# Altium integrated library TI Power Management Power Modules.IntLib: 831 symbols (part 16 of 44)
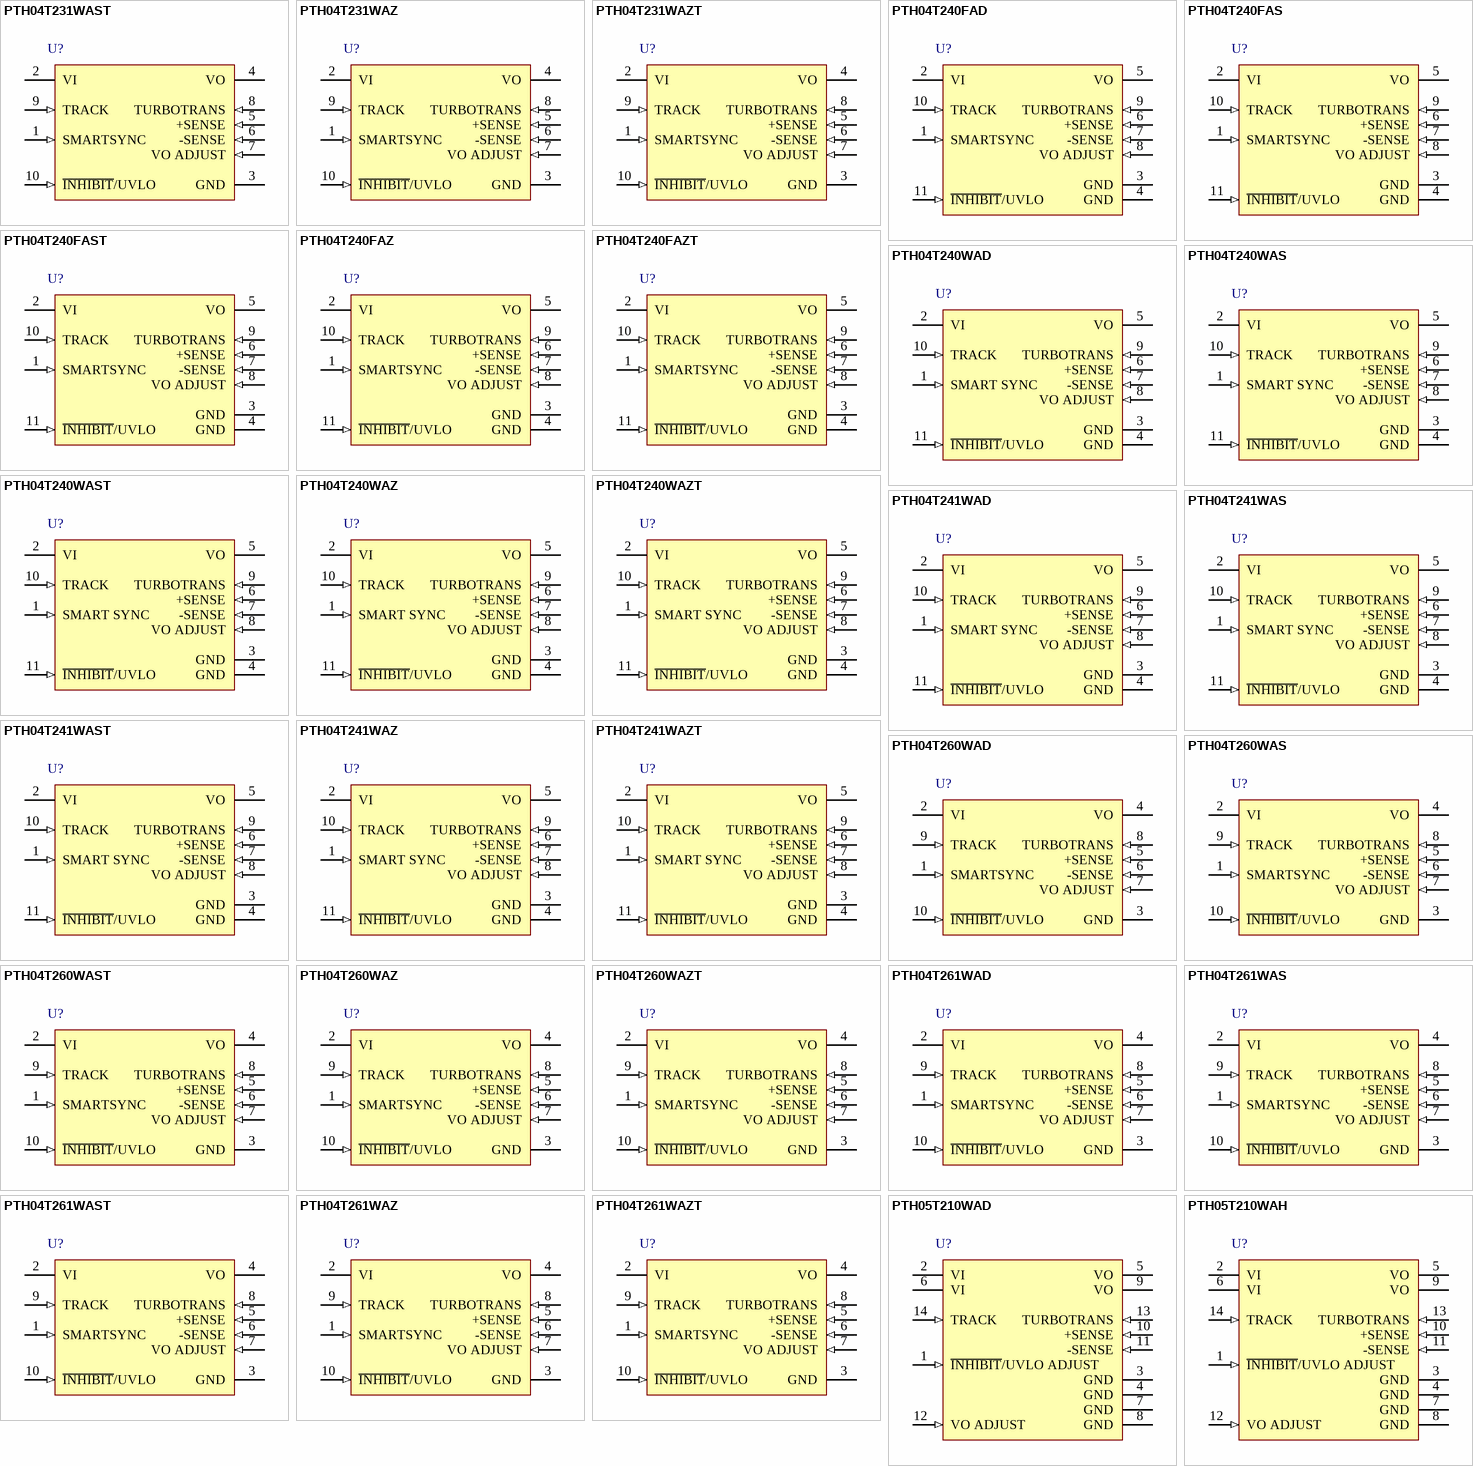
[diagram p38: symbols PTH04T231WAST to PTH05T210WAH]

## PTH05T210WAD
designator U?
30 A, 4.5 to 5.5 V Input, Non-Isolated, Wide Output Adjustable Power Module with TurboTrans, -40 to 85 degC, 14-pin Module (ECP14), Pb-Free (RoHS); Manufacturer: Texas Instruments; PartNumber: PTH05T210WAD; Iout(Max)(A): 30; Regulated Outputs(#): 1; SubFamily: Non-Isolated POL; Vin(Max)(V): 5.5; Vin(Min)(V): 4.5; VO Adjustable: TRUE; Vout(Max)(V): 3.6; Vout(Min)(V): 0.7; DatasheetVersion: SLTS263I; PackageVersion: 4207617/F; PackageReference: ECP14; PackageDescription: 14-Pin Plastic Special Shape, Body 15.75 x 34.8 mm; Supplier 1: Digi-Key; Supplier Part Number 1: 296-20425-ND; Supplier 2: Newark; Supplier Part Number 2: 71K9392; Supplier 3: Mouser; Supplier Part Number 3: 595-PTH05T210WAD; Eco-Plan: Pb-Free (RoHS); Mounting Technology: Surface Mount; ComponentLink1Description: Manufacturer URL; ComponentLink1URL: http://www.ti.com/; ComponentLink2Description: Datasheet; ComponentLink2URL: http://www.ti.com/general/docs/lit/getliterature.tsp?genericPartNumber=PTH05T210W&fileType=pdf; ComponentLink3Description: Package Specification; ComponentLink3URL: http://www.ti.com/litv/pdf/mpds245e; ComponentLink4Description: URL Link1; ComponentLink4URL: Samples URL:http://www.ti.com/product/pth05t210w#samples
footprint TI-ECP14_V (14-Leads Double Sided Module, Body 34.8x15.75mm)
pins: 1 ~{INHIBIT}/UVLO ADJUST (in) "The Inhibit pin is an open-collector/drain, negative logic input that is referenced to GND. Applying a low level ground signal to this input disables the module’s output and turns off the output voltage. When the Inhibit (See Datasheet)", 2 VI (power) "The positive input voltage power node to the module, which is referenced to common GND.", 3 GND (power) "This is the common ground connection for the VI and VO power connections. It is also the 0 Vdc reference for the control inputs.", 4 GND (power) "This is the common ground connection for the VI and VO power connections. It is also the 0 Vdc reference for the control inputs.", 5 VO (power) "The regulated positive power output with respect to the GND.", 6 VI (power) "The positive input voltage power node to the module, which is referenced to common GND.", 7 GND (power) "This is the common ground connection for the VI and VO power connections. It is also the 0 Vdc reference for the control inputs.", 8 GND (power) "This is the common ground connection for the VI and VO power connections. It is also the 0 Vdc reference for the control inputs.", 9 VO (power) "The regulated positive power output with respect to the GND.", 10 +SENSE (in) "The sense input allows the regulation circuit to compensate for voltage drop between the module and the load. For optimal voltage accuracy, +Sense must be connected to VO , very close to the load.", 11 -SENSE (in) "The sense input allows the regulation circuit to compensate for voltage drop between the module and the load. For optimal voltage accuracy, -Sense must be connected to GND (pin 8), very close to the load.", 12 VO ADJUST (in) "A 0.1 W 1% resistor must be directly connected between this pin and pin 8 (GND) to set the output voltage to a value higher than 0.7 V. The temperature stability of the resistor should be 100 ppm/degreesC (or better). The (See Datasheet)", 13 TURBOTRANS (in) "This input pin adjusts the transient response of the regulator. To activate the TurboTrans feature, a 1%, 50 mW resistor must be connected between this pin and pin 10 (+Sense) very close to the module. For a given value of (See Datasheet)", 14 TRACK (in) "This is an analog control input that enables the output voltage to follow an external voltage. This pin becomes active typically 20 ms after the input voltage has been applied, and allows direct control of the output voltage (See Datasheet)"

## PTH05T210WAH
designator U?
30 A, 4.5 to 5.5 V Input, Non-Isolated, Wide Output Adjustable Power Module with TurboTrans, -40 to 85 degC, 14-pin Module (ECP14), Pb-Free (RoHS); Manufacturer: Texas Instruments; PartNumber: PTH05T210WAH; Iout(Max)(A): 30; Regulated Outputs(#): 1; SubFamily: Non-Isolated POL; Vin(Max)(V): 5.5; Vin(Min)(V): 4.5; VO Adjustable: TRUE; Vout(Max)(V): 3.6; Vout(Min)(V): 0.7; DatasheetVersion: SLTS263I; PackageVersion: 4207617/F; PackageReference: ECP14; PackageDescription: 14-Pin Plastic Special Shape, Body 15.75 x 34.8 mm; Supplier 1: Digi-Key; Supplier Part Number 1: 296-20426-ND; Supplier 2: Newark; Supplier Part Number 2: 71K9393; Supplier 3: Mouser; Supplier Part Number 3: 595-PTH05T210WAH; Eco-Plan: Pb-Free (RoHS); Mounting Technology: Surface Mount; ComponentLink1Description: Manufacturer URL; ComponentLink1URL: http://www.ti.com/; ComponentLink2Description: Datasheet; ComponentLink2URL: http://www.ti.com/general/docs/lit/getliterature.tsp?genericPartNumber=PTH05T210W&fileType=pdf; ComponentLink3Description: Package Specification; ComponentLink3URL: http://www.ti.com/litv/pdf/mpds245e; ComponentLink4Description: URL Link1; ComponentLink4URL: Samples URL:http://www.ti.com/product/pth05t210w#samples
footprint TI-ECP14_V (14-Leads Double Sided Module, Body 34.8x15.75mm)
pins: 1 ~{INHIBIT}/UVLO ADJUST (in) "The Inhibit pin is an open-collector/drain, negative logic input that is referenced to GND. Applying a low level ground signal to this input disables the module’s output and turns off the output voltage. When the Inhibit (See Datasheet)", 2 VI (power) "The positive input voltage power node to the module, which is referenced to common GND.", 3 GND (power) "This is the common ground connection for the VI and VO power connections. It is also the 0 Vdc reference for the control inputs.", 4 GND (power) "This is the common ground connection for the VI and VO power connections. It is also the 0 Vdc reference for the control inputs.", 5 VO (power) "The regulated positive power output with respect to the GND.", 6 VI (power) "The positive input voltage power node to the module, which is referenced to common GND.", 7 GND (power) "This is the common ground connection for the VI and VO power connections. It is also the 0 Vdc reference for the control inputs.", 8 GND (power) "This is the common ground connection for the VI and VO power connections. It is also the 0 Vdc reference for the control inputs.", 9 VO (power) "The regulated positive power output with respect to the GND.", 10 +SENSE (in) "The sense input allows the regulation circuit to compensate for voltage drop between the module and the load. For optimal voltage accuracy, +Sense must be connected to VO , very close to the load.", 11 -SENSE (in) "The sense input allows the regulation circuit to compensate for voltage drop between the module and the load. For optimal voltage accuracy, -Sense must be connected to GND (pin 8), very close to the load.", 12 VO ADJUST (in) "A 0.1 W 1% resistor must be directly connected between this pin and pin 8 (GND) to set the output voltage to a value higher than 0.7 V. The temperature stability of the resistor should be 100 ppm/degreesC (or better). The (See Datasheet)", 13 TURBOTRANS (in) "This input pin adjusts the transient response of the regulator. To activate the TurboTrans feature, a 1%, 50 mW resistor must be connected between this pin and pin 10 (+Sense) very close to the module. For a given value of (See Datasheet)", 14 TRACK (in) "This is an analog control input that enables the output voltage to follow an external voltage. This pin becomes active typically 20 ms after the input voltage has been applied, and allows direct control of the output voltage (See Datasheet)"

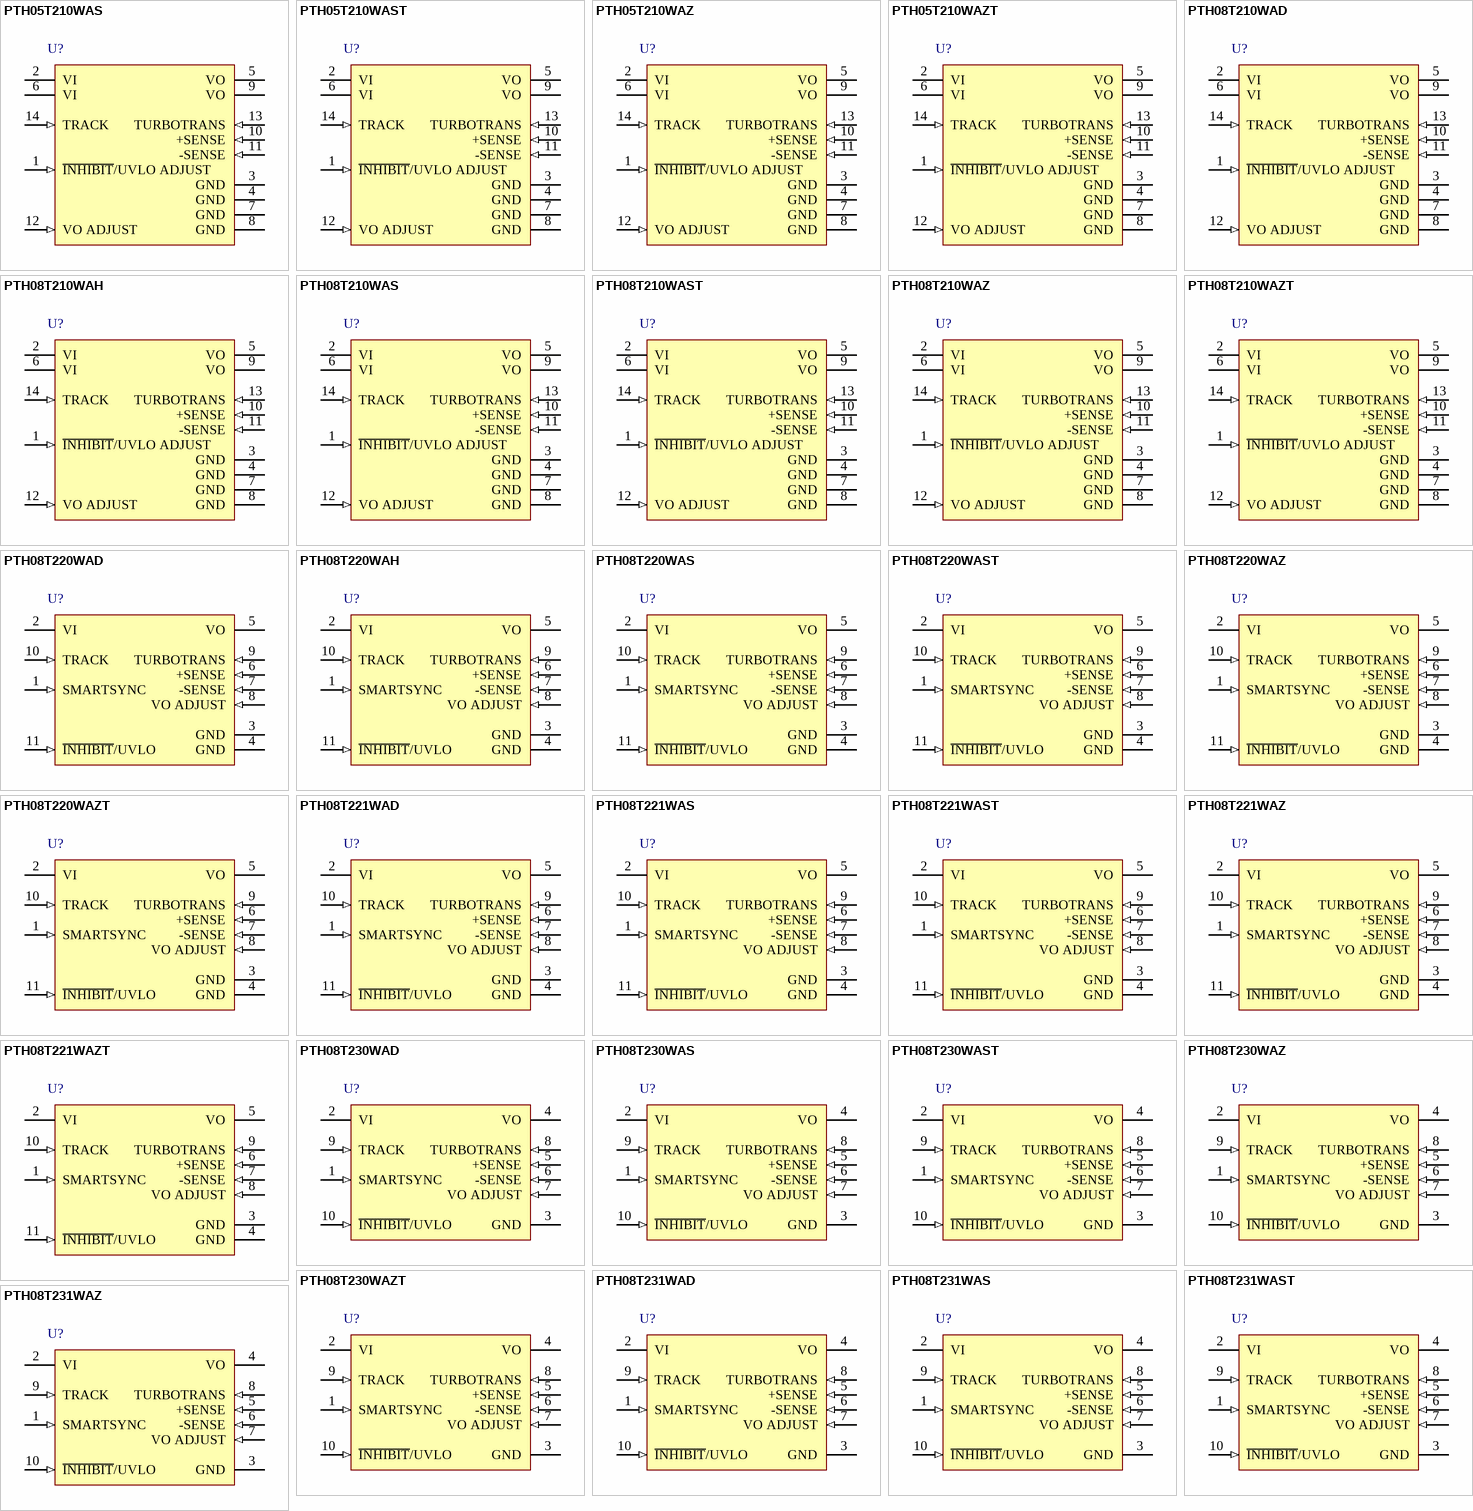
[diagram p10: symbols PTH05T210WAS to PTH08T231WAZ]

## PTH05T210WAS
designator U?
30 A, 4.5 to 5.5 V Input, Non-Isolated, Wide Output Adjustable Power Module with TurboTrans, -40 to 85 degC, 14-pin Module (ECQ14); Manufacturer: Texas Instruments; PartNumber: PTH05T210WAS; Eco-Plan: TBD; Iout(Max)(A): 30; Regulated Outputs(#): 1; SubFamily: Non-Isolated POL; Vin(Max)(V): 5.5; Vin(Min)(V): 4.5; VO Adjustable: TRUE; Vout(Max)(V): 3.6; Vout(Min)(V): 0.7; DatasheetVersion: SLTS263I; PackageVersion: 4207618/G; PackageReference: ECQ14; PackageDescription: 14-Pin Plastic Special Shape, Body 15.75 x 34.8 mm; Supplier 1: Digi-Key; Supplier Part Number 1: 296-20427-ND; Supplier 2: Newark; Supplier Part Number 2: 71K9394; Supplier 3: Mouser; Supplier Part Number 3: 595-PTH05T210WAS; Mounting Technology: Surface Mount; ComponentLink1Description: Manufacturer URL; ComponentLink1URL: http://www.ti.com/; ComponentLink2Description: Datasheet; ComponentLink2URL: http://www.ti.com/general/docs/lit/getliterature.tsp?genericPartNumber=PTH05T210W&fileType=pdf; ComponentLink3Description: Package Specification; ComponentLink3URL: http://www.ti.com/lit/ml/mpds246f/mpds246f.pdf; ComponentLink4Description: URL Link1; ComponentLink4URL: Samples URL:http://www.ti.com/product/pth05t210w#samples
footprint TI-ECQ14_V (Moudle, 14-Leads, Body 34.8x15.75mm)
pins: 1 ~{INHIBIT}/UVLO ADJUST (in) "The Inhibit pin is an open-collector/drain, negative logic input that is referenced to GND. Applying a low level ground signal to this input disables the module’s output and turns off the output voltage. When the Inhibit (See Datasheet)", 2 VI (power) "The positive input voltage power node to the module, which is referenced to common GND.", 3 GND (power) "This is the common ground connection for the VI and VO power connections. It is also the 0 Vdc reference for the control inputs.", 4 GND (power) "This is the common ground connection for the VI and VO power connections. It is also the 0 Vdc reference for the control inputs.", 5 VO (power) "The regulated positive power output with respect to the GND.", 6 VI (power) "The positive input voltage power node to the module, which is referenced to common GND.", 7 GND (power) "This is the common ground connection for the VI and VO power connections. It is also the 0 Vdc reference for the control inputs.", 8 GND (power) "This is the common ground connection for the VI and VO power connections. It is also the 0 Vdc reference for the control inputs.", 9 VO (power) "The regulated positive power output with respect to the GND.", 10 +SENSE (in) "The sense input allows the regulation circuit to compensate for voltage drop between the module and the load. For optimal voltage accuracy, +Sense must be connected to VO , very close to the load.", 11 -SENSE (in) "The sense input allows the regulation circuit to compensate for voltage drop between the module and the load. For optimal voltage accuracy, -Sense must be connected to GND (pin 8), very close to the load.", 12 VO ADJUST (in) "A 0.1 W 1% resistor must be directly connected between this pin and pin 8 (GND) to set the output voltage to a value higher than 0.7 V. The temperature stability of the resistor should be 100 ppm/degreesC (or better). The (See Datasheet)", 13 TURBOTRANS (in) "This input pin adjusts the transient response of the regulator. To activate the TurboTrans feature, a 1%, 50 mW resistor must be connected between this pin and pin 10 (+Sense) very close to the module. For a given value of (See Datasheet)", 14 TRACK (in) "This is an analog control input that enables the output voltage to follow an external voltage. This pin becomes active typically 20 ms after the input voltage has been applied, and allows direct control of the output voltage (See Datasheet)"

## PTH05T210WAST
designator U?
30 A, 4.5 to 5.5 V Input, Non-Isolated, Wide Output Adjustable Power Module with TurboTrans, -40 to 85 degC, 14-pin Module (ECQ14); Manufacturer: Texas Instruments; PartNumber: PTH05T210WAST; Eco-Plan: TBD; Iout(Max)(A): 30; Regulated Outputs(#): 1; SubFamily: Non-Isolated POL; Vin(Max)(V): 5.5; Vin(Min)(V): 4.5; VO Adjustable: TRUE; Vout(Max)(V): 3.6; Vout(Min)(V): 0.7; DatasheetVersion: SLTS263I; PackageVersion: 4207618/G; PackageReference: ECQ14; PackageDescription: 14-Pin Plastic Special Shape, Body 15.75 x 34.8 mm; Supplier 1: Digi-Key; Supplier Part Number 1: PTH05T210WAST-ND; Supplier 2: Newark; Supplier Part Number 2: 71K9395; Supplier 3: Mouser; Supplier Part Number 3: 595-PTH05T210WAST; Mounting Technology: Surface Mount; ComponentLink1Description: Manufacturer URL; ComponentLink1URL: http://www.ti.com/; ComponentLink2Description: Datasheet; ComponentLink2URL: http://www.ti.com/general/docs/lit/getliterature.tsp?genericPartNumber=PTH05T210W&fileType=pdf; ComponentLink3Description: Package Specification; ComponentLink3URL: http://www.ti.com/lit/ml/mpds246f/mpds246f.pdf; ComponentLink4Description: URL Link1; ComponentLink4URL: Samples URL:http://www.ti.com/product/pth05t210w#samples
footprint TI-ECQ14_V (Moudle, 14-Leads, Body 34.8x15.75mm)
pins: 1 ~{INHIBIT}/UVLO ADJUST (in) "The Inhibit pin is an open-collector/drain, negative logic input that is referenced to GND. Applying a low level ground signal to this input disables the module’s output and turns off the output voltage. When the Inhibit (See Datasheet)", 2 VI (power) "The positive input voltage power node to the module, which is referenced to common GND.", 3 GND (power) "This is the common ground connection for the VI and VO power connections. It is also the 0 Vdc reference for the control inputs.", 4 GND (power) "This is the common ground connection for the VI and VO power connections. It is also the 0 Vdc reference for the control inputs.", 5 VO (power) "The regulated positive power output with respect to the GND.", 6 VI (power) "The positive input voltage power node to the module, which is referenced to common GND.", 7 GND (power) "This is the common ground connection for the VI and VO power connections. It is also the 0 Vdc reference for the control inputs.", 8 GND (power) "This is the common ground connection for the VI and VO power connections. It is also the 0 Vdc reference for the control inputs.", 9 VO (power) "The regulated positive power output with respect to the GND.", 10 +SENSE (in) "The sense input allows the regulation circuit to compensate for voltage drop between the module and the load. For optimal voltage accuracy, +Sense must be connected to VO , very close to the load.", 11 -SENSE (in) "The sense input allows the regulation circuit to compensate for voltage drop between the module and the load. For optimal voltage accuracy, -Sense must be connected to GND (pin 8), very close to the load.", 12 VO ADJUST (in) "A 0.1 W 1% resistor must be directly connected between this pin and pin 8 (GND) to set the output voltage to a value higher than 0.7 V. The temperature stability of the resistor should be 100 ppm/degreesC (or better). The (See Datasheet)", 13 TURBOTRANS (in) "This input pin adjusts the transient response of the regulator. To activate the TurboTrans feature, a 1%, 50 mW resistor must be connected between this pin and pin 10 (+Sense) very close to the module. For a given value of (See Datasheet)", 14 TRACK (in) "This is an analog control input that enables the output voltage to follow an external voltage. This pin becomes active typically 20 ms after the input voltage has been applied, and allows direct control of the output voltage (See Datasheet)"

## PTH05T210WAZ
designator U?
30 A, 4.5 to 5.5 V Input, Non-Isolated, Wide Output Adjustable Power Module with TurboTrans, -40 to 85 degC, 14-pin Module (ECQ14), Pb-Free (RoHS); Manufacturer: Texas Instruments; PartNumber: PTH05T210WAZ; Iout(Max)(A): 30; Regulated Outputs(#): 1; SubFamily: Non-Isolated POL; Vin(Max)(V): 5.5; Vin(Min)(V): 4.5; VO Adjustable: TRUE; Vout(Max)(V): 3.6; Vout(Min)(V): 0.7; DatasheetVersion: SLTS263I; PackageVersion: 4207618/G; PackageReference: ECQ14; PackageDescription: 14-Pin Plastic Special Shape, Body 15.75 x 34.8 mm; Supplier 1: Digi-Key; Supplier Part Number 1: 296-20428-ND; Supplier 2: Newark; Supplier Part Number 2: 71K9396; Supplier 3: Mouser; Supplier Part Number 3: 595-PTH05T210WAZ; Eco-Plan: Pb-Free (RoHS); Mounting Technology: Surface Mount; ComponentLink1Description: Manufacturer URL; ComponentLink1URL: http://www.ti.com/; ComponentLink2Description: Datasheet; ComponentLink2URL: http://www.ti.com/general/docs/lit/getliterature.tsp?genericPartNumber=PTH05T210W&fileType=pdf; ComponentLink3Description: Package Specification; ComponentLink3URL: http://www.ti.com/lit/ml/mpds246f/mpds246f.pdf; ComponentLink4Description: URL Link1; ComponentLink4URL: Samples URL:http://www.ti.com/product/pth05t210w#samples
footprint TI-ECQ14_V (Moudle, 14-Leads, Body 34.8x15.75mm)
pins: 1 ~{INHIBIT}/UVLO ADJUST (in) "The Inhibit pin is an open-collector/drain, negative logic input that is referenced to GND. Applying a low level ground signal to this input disables the module’s output and turns off the output voltage. When the Inhibit (See Datasheet)", 2 VI (power) "The positive input voltage power node to the module, which is referenced to common GND.", 3 GND (power) "This is the common ground connection for the VI and VO power connections. It is also the 0 Vdc reference for the control inputs.", 4 GND (power) "This is the common ground connection for the VI and VO power connections. It is also the 0 Vdc reference for the control inputs.", 5 VO (power) "The regulated positive power output with respect to the GND.", 6 VI (power) "The positive input voltage power node to the module, which is referenced to common GND.", 7 GND (power) "This is the common ground connection for the VI and VO power connections. It is also the 0 Vdc reference for the control inputs.", 8 GND (power) "This is the common ground connection for the VI and VO power connections. It is also the 0 Vdc reference for the control inputs.", 9 VO (power) "The regulated positive power output with respect to the GND.", 10 +SENSE (in) "The sense input allows the regulation circuit to compensate for voltage drop between the module and the load. For optimal voltage accuracy, +Sense must be connected to VO , very close to the load.", 11 -SENSE (in) "The sense input allows the regulation circuit to compensate for voltage drop between the module and the load. For optimal voltage accuracy, -Sense must be connected to GND (pin 8), very close to the load.", 12 VO ADJUST (in) "A 0.1 W 1% resistor must be directly connected between this pin and pin 8 (GND) to set the output voltage to a value higher than 0.7 V. The temperature stability of the resistor should be 100 ppm/degreesC (or better). The (See Datasheet)", 13 TURBOTRANS (in) "This input pin adjusts the transient response of the regulator. To activate the TurboTrans feature, a 1%, 50 mW resistor must be connected between this pin and pin 10 (+Sense) very close to the module. For a given value of (See Datasheet)", 14 TRACK (in) "This is an analog control input that enables the output voltage to follow an external voltage. This pin becomes active typically 20 ms after the input voltage has been applied, and allows direct control of the output voltage (See Datasheet)"

## PTH05T210WAZT
designator U?
30 A, 4.5 to 5.5 V Input, Non-Isolated, Wide Output Adjustable Power Module with TurboTrans, -40 to 85 degC, 14-pin Module (ECQ14), Pb-Free (RoHS); Manufacturer: Texas Instruments; PartNumber: PTH05T210WAZT; Iout(Max)(A): 30; Regulated Outputs(#): 1; SubFamily: Non-Isolated POL; Vin(Max)(V): 5.5; Vin(Min)(V): 4.5; VO Adjustable: TRUE; Vout(Max)(V): 3.6; Vout(Min)(V): 0.7; DatasheetVersion: SLTS263I; PackageVersion: 4207618/G; PackageReference: ECQ14; PackageDescription: 14-Pin Plastic Special Shape, Body 15.75 x 34.8 mm; Supplier 1: Digi-Key; Supplier Part Number 1: PTH05T210WAZT-ND; Supplier 2: Newark; Supplier Part Number 2: 71K9397; Supplier 3: Mouser; Supplier Part Number 3: 595-PTH05T210WAZT; Eco-Plan: Pb-Free (RoHS); Mounting Technology: Surface Mount; ComponentLink1Description: Manufacturer URL; ComponentLink1URL: http://www.ti.com/; ComponentLink2Description: Datasheet; ComponentLink2URL: http://www.ti.com/general/docs/lit/getliterature.tsp?genericPartNumber=PTH05T210W&fileType=pdf; ComponentLink3Description: Package Specification; ComponentLink3URL: http://www.ti.com/lit/ml/mpds246f/mpds246f.pdf; ComponentLink4Description: URL Link1; ComponentLink4URL: Samples URL:http://www.ti.com/product/pth05t210w
footprint TI-ECQ14_V (Moudle, 14-Leads, Body 34.8x15.75mm)
pins: 1 ~{INHIBIT}/UVLO ADJUST (in) "The Inhibit pin is an open-collector/drain, negative logic input that is referenced to GND. Applying a low level ground signal to this input disables the module’s output and turns off the output voltage. When the Inhibit (See Datasheet)", 2 VI (power) "The positive input voltage power node to the module, which is referenced to common GND.", 3 GND (power) "This is the common ground connection for the VI and VO power connections. It is also the 0 Vdc reference for the control inputs.", 4 GND (power) "This is the common ground connection for the VI and VO power connections. It is also the 0 Vdc reference for the control inputs.", 5 VO (power) "The regulated positive power output with respect to the GND.", 6 VI (power) "The positive input voltage power node to the module, which is referenced to common GND.", 7 GND (power) "This is the common ground connection for the VI and VO power connections. It is also the 0 Vdc reference for the control inputs.", 8 GND (power) "This is the common ground connection for the VI and VO power connections. It is also the 0 Vdc reference for the control inputs.", 9 VO (power) "The regulated positive power output with respect to the GND.", 10 +SENSE (in) "The sense input allows the regulation circuit to compensate for voltage drop between the module and the load. For optimal voltage accuracy, +Sense must be connected to VO , very close to the load.", 11 -SENSE (in) "The sense input allows the regulation circuit to compensate for voltage drop between the module and the load. For optimal voltage accuracy, -Sense must be connected to GND (pin 8), very close to the load.", 12 VO ADJUST (in) "A 0.1 W 1% resistor must be directly connected between this pin and pin 8 (GND) to set the output voltage to a value higher than 0.7 V. The temperature stability of the resistor should be 100 ppm/degreesC (or better). The (See Datasheet)", 13 TURBOTRANS (in) "This input pin adjusts the transient response of the regulator. To activate the TurboTrans feature, a 1%, 50 mW resistor must be connected between this pin and pin 10 (+Sense) very close to the module. For a given value of (See Datasheet)", 14 TRACK (in) "This is an analog control input that enables the output voltage to follow an external voltage. This pin becomes active typically 20 ms after the input voltage has been applied, and allows direct control of the output voltage (See Datasheet)"

## PTH08T210WAD
designator U?
30 A, 5.5 to 14 V Input, Non-Isolated, Wide Output Adjust, Power Module with TurboTrans, -40 to 85 degC, 14-pin Module (ECP14), Pb-Free (RoHS); Manufacturer: Texas Instruments; PartNumber: PTH08T210WAD; Iout(Max)(A): 30; Regulated Outputs(#): 1; SubFamily: Non-Isolated POL; Vin(Max)(V): 14; Vin(Min)(V): 5.5; VO Adjustable: TRUE; Vout(Max)(V): 3.6; Vout(Min)(V): 0.7; DatasheetVersion: SLTS262I; PackageVersion: 4207617/F; PackageReference: ECP14; PackageDescription: 14-Pin Plastic Special Shape, Body 15.75 x 34.8 mm; Supplier 1: Digi-Key; Supplier Part Number 1: 296-20434-ND; Supplier 2: Newark; Supplier Part Number 2: 26M8295; Supplier 3: Mouser; Supplier Part Number 3: 595-PTH08T210WAD; Eco-Plan: Pb-Free (RoHS); Mounting Technology: Surface Mount; ComponentLink1Description: Manufacturer URL; ComponentLink1URL: http://www.ti.com/; ComponentLink2Description: Datasheet; ComponentLink2URL: http://www.ti.com/general/docs/lit/getliterature.tsp?genericPartNumber=PTH08T210W&fileType=pdf; ComponentLink3Description: Package Specification; ComponentLink3URL: http://www.ti.com/litv/pdf/mpds245e; ComponentLink4Description: URL Link1; ComponentLink4URL: Samples URL:http://www.ti.com/product/pth08t210w#samples
footprint TI-ECP14_V (14-Leads Double Sided Module, Body 34.8x15.75mm)
pins: 1 ~{INHIBIT}/UVLO ADJUST (in) "The Inhibit pin is an open-collector/drain, negative logic input that is referenced to GND. Applying a low level ground signal to this input disables the module’s output and turns off the output voltage. When the Inhibit (See Datasheet)", 2 VI (power) "The positive input voltage power node to the module, which is referenced to common GND.", 3 GND (power) "This is the common ground connection for the VI and VO power connections. It is also the 0 Vdc reference for the control inputs.", 4 GND (power) "This is the common ground connection for the VI and VO power connections. It is also the 0 Vdc reference for the control inputs.", 5 VO (power) "The regulated positive power output with respect to the GND.", 6 VI (power) "The positive input voltage power node to the module, which is referenced to common GND.", 7 GND (power) "This is the common ground connection for the VI and VO power connections. It is also the 0 Vdc reference for the control inputs.", 8 GND (power) "This is the common ground connection for the VI and VO power connections. It is also the 0 Vdc reference for the control inputs.", 9 VO (power) "The regulated positive power output with respect to the GND.", 10 +SENSE (in) "The sense input allows the regulation circuit to compensate for voltage drop between the module and the load. For optimal voltage accuracy, +Sense must be connected to VO , very close to the load.", 11 -SENSE (in) "The sense input allows the regulation circuit to compensate for voltage drop between the module and the load. For optimal voltage accuracy, -Sense must be connected to GND (pin 8), very close to the load.", 12 VO ADJUST (in) "A 0.1 W 1% resistor must be directly connected between this pin and pin 8 (GND) to set the output voltage to a value higher than 0.7 V. The temperature stability of the resistor should be 100 ppm/degreesC (or better). The (See Datasheet)", 13 TURBOTRANS (in) "This input pin adjusts the transient response of the regulator. To activate the TurboTrans feature, a 1%, 50 mW resistor must be connected between this pin and pin 10 (+Sense) very close to the module. For a given value of (See Datasheet)", 14 TRACK (in) "This is an analog control input that enables the output voltage to follow an external voltage. This pin becomes active typically 20 ms after the input voltage has been applied, and allows direct control of the output voltage (See Datasheet)"

## PTH08T210WAH
designator U?
30 A, 5.5 to 14 V Input, Non-Isolated, Wide Output Adjust, Power Module with TurboTrans, -40 to 85 degC, 14-pin Module (ECP14), Pb-Free (RoHS); Manufacturer: Texas Instruments; PartNumber: PTH08T210WAH; Iout(Max)(A): 30; Regulated Outputs(#): 1; SubFamily: Non-Isolated POL; Vin(Max)(V): 14; Vin(Min)(V): 5.5; VO Adjustable: TRUE; Vout(Max)(V): 3.6; Vout(Min)(V): 0.7; DatasheetVersion: SLTS262I; PackageVersion: 4207617/F; PackageReference: ECP14; PackageDescription: 14-Pin Plastic Special Shape, Body 15.75 x 34.8 mm; Supplier 1: Digi-Key; Supplier Part Number 1: 296-20435-ND; Supplier 2: Newark; Supplier Part Number 2: 78M1805; Supplier 3: Mouser; Supplier Part Number 3: 595-PTH08T210WAH; Eco-Plan: Pb-Free (RoHS); Mounting Technology: Surface Mount; ComponentLink1Description: Manufacturer URL; ComponentLink1URL: http://www.ti.com/; ComponentLink2Description: Datasheet; ComponentLink2URL: http://www.ti.com/general/docs/lit/getliterature.tsp?genericPartNumber=PTH08T210W&fileType=pdf; ComponentLink3Description: Package Specification; ComponentLink3URL: http://www.ti.com/litv/pdf/mpds245e; ComponentLink4Description: URL Link1; ComponentLink4URL: Samples URL:http://www.ti.com/product/pth08t210w#samples
footprint TI-ECP14_V (14-Leads Double Sided Module, Body 34.8x15.75mm)
pins: 1 ~{INHIBIT}/UVLO ADJUST (in) "The Inhibit pin is an open-collector/drain, negative logic input that is referenced to GND. Applying a low level ground signal to this input disables the module’s output and turns off the output voltage. When the Inhibit (See Datasheet)", 2 VI (power) "The positive input voltage power node to the module, which is referenced to common GND.", 3 GND (power) "This is the common ground connection for the VI and VO power connections. It is also the 0 Vdc reference for the control inputs.", 4 GND (power) "This is the common ground connection for the VI and VO power connections. It is also the 0 Vdc reference for the control inputs.", 5 VO (power) "The regulated positive power output with respect to the GND.", 6 VI (power) "The positive input voltage power node to the module, which is referenced to common GND.", 7 GND (power) "This is the common ground connection for the VI and VO power connections. It is also the 0 Vdc reference for the control inputs.", 8 GND (power) "This is the common ground connection for the VI and VO power connections. It is also the 0 Vdc reference for the control inputs.", 9 VO (power) "The regulated positive power output with respect to the GND.", 10 +SENSE (in) "The sense input allows the regulation circuit to compensate for voltage drop between the module and the load. For optimal voltage accuracy, +Sense must be connected to VO , very close to the load.", 11 -SENSE (in) "The sense input allows the regulation circuit to compensate for voltage drop between the module and the load. For optimal voltage accuracy, -Sense must be connected to GND (pin 8), very close to the load.", 12 VO ADJUST (in) "A 0.1 W 1% resistor must be directly connected between this pin and pin 8 (GND) to set the output voltage to a value higher than 0.7 V. The temperature stability of the resistor should be 100 ppm/degreesC (or better). The (See Datasheet)", 13 TURBOTRANS (in) "This input pin adjusts the transient response of the regulator. To activate the TurboTrans feature, a 1%, 50 mW resistor must be connected between this pin and pin 10 (+Sense) very close to the module. For a given value of (See Datasheet)", 14 TRACK (in) "This is an analog control input that enables the output voltage to follow an external voltage. This pin becomes active typically 20 ms after the input voltage has been applied, and allows direct control of the output voltage (See Datasheet)"

## PTH08T210WAS
designator U?
30 A, 5.5 to 14 V Input, Non-Isolated, Wide Output Adjust, Power Module with TurboTrans, -40 to 85 degC, 14-pin Module (ECQ14); Manufacturer: Texas Instruments; PartNumber: PTH08T210WAS; Eco-Plan: TBD; Iout(Max)(A): 30; Regulated Outputs(#): 1; SubFamily: Non-Isolated POL; Vin(Max)(V): 14; Vin(Min)(V): 5.5; VO Adjustable: TRUE; Vout(Max)(V): 3.6; Vout(Min)(V): 0.7; DatasheetVersion: SLTS262I; PackageVersion: 4207618/G; PackageReference: ECQ14; PackageDescription: 14-Pin Plastic Special Shape, Body 15.75 x 34.8 mm; Supplier 1: Digi-Key; Supplier Part Number 1: 296-20436-ND; Supplier 2: Newark; Supplier Part Number 2: 66K4112; Supplier 3: Mouser; Supplier Part Number 3: 595-PTH08T210WAS; Mounting Technology: Surface Mount; ComponentLink1Description: Manufacturer URL; ComponentLink1URL: http://www.ti.com/; ComponentLink2Description: Datasheet; ComponentLink2URL: http://www.ti.com/general/docs/lit/getliterature.tsp?genericPartNumber=PTH08T210W&fileType=pdf; ComponentLink3Description: Package Specification; ComponentLink3URL: http://www.ti.com/lit/ml/mpds246f/mpds246f.pdf; ComponentLink4Description: URL Link1; ComponentLink4URL: Samples URL:http://www.ti.com/product/pth08t210w#samples
footprint TI-ECQ14_V (Moudle, 14-Leads, Body 34.8x15.75mm)
pins: 1 ~{INHIBIT}/UVLO ADJUST (in) "The Inhibit pin is an open-collector/drain, negative logic input that is referenced to GND. Applying a low level ground signal to this input disables the module’s output and turns off the output voltage. When the Inhibit (See Datasheet)", 2 VI (power) "The positive input voltage power node to the module, which is referenced to common GND.", 3 GND (power) "This is the common ground connection for the VI and VO power connections. It is also the 0 Vdc reference for the control inputs.", 4 GND (power) "This is the common ground connection for the VI and VO power connections. It is also the 0 Vdc reference for the control inputs.", 5 VO (power) "The regulated positive power output with respect to the GND.", 6 VI (power) "The positive input voltage power node to the module, which is referenced to common GND.", 7 GND (power) "This is the common ground connection for the VI and VO power connections. It is also the 0 Vdc reference for the control inputs.", 8 GND (power) "This is the common ground connection for the VI and VO power connections. It is also the 0 Vdc reference for the control inputs.", 9 VO (power) "The regulated positive power output with respect to the GND.", 10 +SENSE (in) "The sense input allows the regulation circuit to compensate for voltage drop between the module and the load. For optimal voltage accuracy, +Sense must be connected to VO , very close to the load.", 11 -SENSE (in) "The sense input allows the regulation circuit to compensate for voltage drop between the module and the load. For optimal voltage accuracy, -Sense must be connected to GND (pin 8), very close to the load.", 12 VO ADJUST (in) "A 0.1 W 1% resistor must be directly connected between this pin and pin 8 (GND) to set the output voltage to a value higher than 0.7 V. The temperature stability of the resistor should be 100 ppm/degreesC (or better). The (See Datasheet)", 13 TURBOTRANS (in) "This input pin adjusts the transient response of the regulator. To activate the TurboTrans feature, a 1%, 50 mW resistor must be connected between this pin and pin 10 (+Sense) very close to the module. For a given value of (See Datasheet)", 14 TRACK (in) "This is an analog control input that enables the output voltage to follow an external voltage. This pin becomes active typically 20 ms after the input voltage has been applied, and allows direct control of the output voltage (See Datasheet)"

## PTH08T210WAST
designator U?
30 A, 5.5 to 14 V Input, Non-Isolated, Wide Output Adjust, Power Module with TurboTrans, -40 to 85 degC, 14-pin Module (ECQ14); Manufacturer: Texas Instruments; PartNumber: PTH08T210WAST; Eco-Plan: TBD; Iout(Max)(A): 30; Regulated Outputs(#): 1; SubFamily: Non-Isolated POL; Vin(Max)(V): 14; Vin(Min)(V): 5.5; VO Adjustable: TRUE; Vout(Max)(V): 3.6; Vout(Min)(V): 0.7; DatasheetVersion: SLTS262I; PackageVersion: 4207618/G; PackageReference: ECQ14; PackageDescription: 14-Pin Plastic Special Shape, Body 15.75 x 34.8 mm; Supplier 1: Digi-Key; Supplier Part Number 1: PTH08T210WAST-ND; Supplier 2: Newark; Supplier Part Number 2: 66K4113; Supplier 3: Mouser; Supplier Part Number 3: 595-PTH08T210WAST; Mounting Technology: Surface Mount; ComponentLink1Description: Manufacturer URL; ComponentLink1URL: http://www.ti.com/; ComponentLink2Description: Datasheet; ComponentLink2URL: http://www.ti.com/general/docs/lit/getliterature.tsp?genericPartNumber=PTH08T210W&fileType=pdf; ComponentLink3Description: Package Specification; ComponentLink3URL: http://www.ti.com/lit/ml/mpds246f/mpds246f.pdf; ComponentLink4Description: URL Link1; ComponentLink4URL: Samples URL:http://www.ti.com/product/pth08t210w#samples
footprint TI-ECQ14_V (Moudle, 14-Leads, Body 34.8x15.75mm)
pins: 1 ~{INHIBIT}/UVLO ADJUST (in) "The Inhibit pin is an open-collector/drain, negative logic input that is referenced to GND. Applying a low level ground signal to this input disables the module’s output and turns off the output voltage. When the Inhibit (See Datasheet)", 2 VI (power) "The positive input voltage power node to the module, which is referenced to common GND.", 3 GND (power) "This is the common ground connection for the VI and VO power connections. It is also the 0 Vdc reference for the control inputs.", 4 GND (power) "This is the common ground connection for the VI and VO power connections. It is also the 0 Vdc reference for the control inputs.", 5 VO (power) "The regulated positive power output with respect to the GND.", 6 VI (power) "The positive input voltage power node to the module, which is referenced to common GND.", 7 GND (power) "This is the common ground connection for the VI and VO power connections. It is also the 0 Vdc reference for the control inputs.", 8 GND (power) "This is the common ground connection for the VI and VO power connections. It is also the 0 Vdc reference for the control inputs.", 9 VO (power) "The regulated positive power output with respect to the GND.", 10 +SENSE (in) "The sense input allows the regulation circuit to compensate for voltage drop between the module and the load. For optimal voltage accuracy, +Sense must be connected to VO , very close to the load.", 11 -SENSE (in) "The sense input allows the regulation circuit to compensate for voltage drop between the module and the load. For optimal voltage accuracy, -Sense must be connected to GND (pin 8), very close to the load.", 12 VO ADJUST (in) "A 0.1 W 1% resistor must be directly connected between this pin and pin 8 (GND) to set the output voltage to a value higher than 0.7 V. The temperature stability of the resistor should be 100 ppm/degreesC (or better). The (See Datasheet)", 13 TURBOTRANS (in) "This input pin adjusts the transient response of the regulator. To activate the TurboTrans feature, a 1%, 50 mW resistor must be connected between this pin and pin 10 (+Sense) very close to the module. For a given value of (See Datasheet)", 14 TRACK (in) "This is an analog control input that enables the output voltage to follow an external voltage. This pin becomes active typically 20 ms after the input voltage has been applied, and allows direct control of the output voltage (See Datasheet)"

## PTH08T210WAZ
designator U?
30 A, 5.5 to 14 V Input, Non-Isolated, Wide Output Adjust, Power Module with TurboTrans, -40 to 85 degC, 14-pin Module (ECQ14), Pb-Free (RoHS); Manufacturer: Texas Instruments; PartNumber: PTH08T210WAZ; Iout(Max)(A): 30; Regulated Outputs(#): 1; SubFamily: Non-Isolated POL; Vin(Max)(V): 14; Vin(Min)(V): 5.5; VO Adjustable: TRUE; Vout(Max)(V): 3.6; Vout(Min)(V): 0.7; DatasheetVersion: SLTS262I; PackageVersion: 4207618/G; PackageReference: ECQ14; PackageDescription: 14-Pin Plastic Special Shape, Body 15.75 x 34.8 mm; Supplier 1: Digi-Key; Supplier Part Number 1: 296-20437-ND; Supplier 2: Farnell; Supplier Part Number 2: 1755097; Supplier 3: Farnell; Supplier Part Number 3: 1273071; Supplier 4: Newark; Supplier Part Number 4: 66K4114; Supplier 5: Mouser; Supplier Part Number 5: 595-PTH08T210WAZ; Eco-Plan: Pb-Free (RoHS); Mounting Technology: Surface Mount; ComponentLink1Description: Manufacturer URL; ComponentLink1URL: http://www.ti.com/; ComponentLink2Description: Datasheet; ComponentLink2URL: http://www.ti.com/general/docs/lit/getliterature.tsp?genericPartNumber=PTH08T210W&fileType=pdf; ComponentLink3Description: Package Specification; ComponentLink3URL: http://www.ti.com/lit/ml/mpds246f/mpds246f.pdf; ComponentLink4Description: URL Link1; ComponentLink4URL: Samples URL:http://www.ti.com/product/pth08t210w#samples
footprint TI-ECQ14_V (Moudle, 14-Leads, Body 34.8x15.75mm)
pins: 1 ~{INHIBIT}/UVLO ADJUST (in) "The Inhibit pin is an open-collector/drain, negative logic input that is referenced to GND. Applying a low level ground signal to this input disables the module’s output and turns off the output voltage. When the Inhibit (See Datasheet)", 2 VI (power) "The positive input voltage power node to the module, which is referenced to common GND.", 3 GND (power) "This is the common ground connection for the VI and VO power connections. It is also the 0 Vdc reference for the control inputs.", 4 GND (power) "This is the common ground connection for the VI and VO power connections. It is also the 0 Vdc reference for the control inputs.", 5 VO (power) "The regulated positive power output with respect to the GND.", 6 VI (power) "The positive input voltage power node to the module, which is referenced to common GND.", 7 GND (power) "This is the common ground connection for the VI and VO power connections. It is also the 0 Vdc reference for the control inputs.", 8 GND (power) "This is the common ground connection for the VI and VO power connections. It is also the 0 Vdc reference for the control inputs.", 9 VO (power) "The regulated positive power output with respect to the GND.", 10 +SENSE (in) "The sense input allows the regulation circuit to compensate for voltage drop between the module and the load. For optimal voltage accuracy, +Sense must be connected to VO , very close to the load.", 11 -SENSE (in) "The sense input allows the regulation circuit to compensate for voltage drop between the module and the load. For optimal voltage accuracy, -Sense must be connected to GND (pin 8), very close to the load.", 12 VO ADJUST (in) "A 0.1 W 1% resistor must be directly connected between this pin and pin 8 (GND) to set the output voltage to a value higher than 0.7 V. The temperature stability of the resistor should be 100 ppm/degreesC (or better). The (See Datasheet)", 13 TURBOTRANS (in) "This input pin adjusts the transient response of the regulator. To activate the TurboTrans feature, a 1%, 50 mW resistor must be connected between this pin and pin 10 (+Sense) very close to the module. For a given value of (See Datasheet)", 14 TRACK (in) "This is an analog control input that enables the output voltage to follow an external voltage. This pin becomes active typically 20 ms after the input voltage has been applied, and allows direct control of the output voltage (See Datasheet)"

## PTH08T210WAZT
designator U?
30 A, 5.5 to 14 V Input, Non-Isolated, Wide Output Adjust, Power Module with TurboTrans, -40 to 85 degC, 14-pin Module (ECQ14), Pb-Free (RoHS); Manufacturer: Texas Instruments; PartNumber: PTH08T210WAZT; Iout(Max)(A): 30; Regulated Outputs(#): 1; SubFamily: Non-Isolated POL; Vin(Max)(V): 14; Vin(Min)(V): 5.5; VO Adjustable: TRUE; Vout(Max)(V): 3.6; Vout(Min)(V): 0.7; DatasheetVersion: SLTS262I; PackageVersion: 4207618/G; PackageReference: ECQ14; PackageDescription: 14-Pin Plastic Special Shape, Body 15.75 x 34.8 mm; Supplier 1: Digi-Key; Supplier Part Number 1: PTH08T210WAZT-ND; Supplier 2: Newark; Supplier Part Number 2: 66K4115; Supplier 3: Mouser; Supplier Part Number 3: 595-PTH08T210WAZT; Eco-Plan: Pb-Free (RoHS); Mounting Technology: Surface Mount; ComponentLink1Description: Manufacturer URL; ComponentLink1URL: http://www.ti.com/; ComponentLink2Description: Datasheet; ComponentLink2URL: http://www.ti.com/general/docs/lit/getliterature.tsp?genericPartNumber=PTH08T210W&fileType=pdf; ComponentLink3Description: Package Specification; ComponentLink3URL: http://www.ti.com/lit/ml/mpds246f/mpds246f.pdf; ComponentLink4Description: URL Link1; ComponentLink4URL: Samples URL:http://www.ti.com/product/pth08t210w
footprint TI-ECQ14_V (Moudle, 14-Leads, Body 34.8x15.75mm)
pins: 1 ~{INHIBIT}/UVLO ADJUST (in) "The Inhibit pin is an open-collector/drain, negative logic input that is referenced to GND. Applying a low level ground signal to this input disables the module’s output and turns off the output voltage. When the Inhibit (See Datasheet)", 2 VI (power) "The positive input voltage power node to the module, which is referenced to common GND.", 3 GND (power) "This is the common ground connection for the VI and VO power connections. It is also the 0 Vdc reference for the control inputs.", 4 GND (power) "This is the common ground connection for the VI and VO power connections. It is also the 0 Vdc reference for the control inputs.", 5 VO (power) "The regulated positive power output with respect to the GND.", 6 VI (power) "The positive input voltage power node to the module, which is referenced to common GND.", 7 GND (power) "This is the common ground connection for the VI and VO power connections. It is also the 0 Vdc reference for the control inputs.", 8 GND (power) "This is the common ground connection for the VI and VO power connections. It is also the 0 Vdc reference for the control inputs.", 9 VO (power) "The regulated positive power output with respect to the GND.", 10 +SENSE (in) "The sense input allows the regulation circuit to compensate for voltage drop between the module and the load. For optimal voltage accuracy, +Sense must be connected to VO , very close to the load.", 11 -SENSE (in) "The sense input allows the regulation circuit to compensate for voltage drop between the module and the load. For optimal voltage accuracy, -Sense must be connected to GND (pin 8), very close to the load.", 12 VO ADJUST (in) "A 0.1 W 1% resistor must be directly connected between this pin and pin 8 (GND) to set the output voltage to a value higher than 0.7 V. The temperature stability of the resistor should be 100 ppm/degreesC (or better). The (See Datasheet)", 13 TURBOTRANS (in) "This input pin adjusts the transient response of the regulator. To activate the TurboTrans feature, a 1%, 50 mW resistor must be connected between this pin and pin 10 (+Sense) very close to the module. For a given value of (See Datasheet)", 14 TRACK (in) "This is an analog control input that enables the output voltage to follow an external voltage. This pin becomes active typically 20 ms after the input voltage has been applied, and allows direct control of the output voltage (See Datasheet)"

## PTH08T220WAD
designator U?
16 A, 4.5 to 14 V Input, Non-Isolated, Wide Output Adjust, Power Module with TurboTrans, -40 to 85 degC, 11-pin Module (EAS11), Pb-Free (RoHS); Manufacturer: Texas Instruments; PartNumber: PTH08T220WAD; Iout(Max)(A): 16; Regulated Outputs(#): 1; SubFamily: Non-Isolated POL; Vin(Max)(V): 14; Vin(Min)(V): 4.5; VO Adjustable: TRUE; Vout(Max)(V): 5.5; Vout(Min)(V): 0.69; DatasheetVersion: SLTS252K; PackageVersion: 4207363/E; PackageReference: EAS11; PackageDescription: 11-Pin Plastic Special Shape, Body 18.93 x 22.1 mm; Supplier 1: Digi-Key; Supplier Part Number 1: 296-20438-ND; Supplier 2: Farnell; Supplier Part Number 2: 2144313; Supplier 3: Newark; Supplier Part Number 3: 66K4116; Supplier 4: Mouser; Supplier Part Number 4: 595-PTH08T220WAD; Eco-Plan: Pb-Free (RoHS); Mounting Technology: Through Hole; ComponentLink1Description: Manufacturer URL; ComponentLink1URL: http://www.ti.com/; ComponentLink2Description: Datasheet; ComponentLink2URL: http://www.ti.com/general/docs/lit/getliterature.tsp?genericPartNumber=PTH08T220W&fileType=pdf; ComponentLink3Description: Package Specification; ComponentLink3URL: http://www.ti.com/litv/pdf/mpds228d; ComponentLink4Description: URL Link1; ComponentLink4URL: Samples URL:http://www.ti.com/product/pth08t220w#samples
footprint TI-EAS11_V (Module, 11-Leads, Body 22.1x18.93 mm)
pins: 1 SMARTSYNC (in) "This input pin sychronizes the switching frequency of the module to an external clock frequency. The SmartSync feature can be used to sychronize the switching fequency of multiple PTH08T220/221W modules, aiding EMI noise (See Datasheet)", 2 VI (power) "The positive input voltage power node to the module, which is referenced to common GND.", 3 GND (power) "This is the common ground connection for the VI and VO power connections. It is also the 0 Vdc reference for the control inputs.", 4 GND (power) "This is the common ground connection for the VI and VO power connections. It is also the 0 Vdc reference for the control inputs.", 5 VO (power) "The regulated positive power output with respect to GND.", 6 +SENSE (in) "The sense input allows the regulation circuit to compensate for voltage drop between the module and the load. For optimal voltage accuracy, +Sense must be connected to VO, very close to the load.", 7 -SENSE (in) "The sense input allows the regulation circuit to compensate for voltage drop between the module and the load. For optimal voltage accuracy -Sense must be connected to GND (pin4) very close to the module (within 10cm).", 8 VO ADJUST (in) "A 0.05 W 1% resistor must be directly connected between this pin and pin7 (-Sense) to set the output voltage to a value higher than 0.69V. The temperature stability of the resistor should be 100 ppm/degreesC (or better). The (See Datasheet)", 9 TURBOTRANS (in) "This input pin adjusts the transient response of the regulator. To activate the TurboTrans? feature, a 1%, 50mW resistor must be connected between this pin and pin 6 (+Sense) very close to the module. For a given value of (See Datasheet)", 10 TRACK (in) "This is an analog control input that enables the output voltage to follow an external voltage. This pin becomes active typically 20 ms after the input voltage has been applied, and allows direct control of the output voltage (See Datasheet)", 11 ~{INHIBIT}/UVLO (in) "The Inhibit pin is an open-collector/drain, negative logic input that is referenced to GND. Applying a low level ground signal to this input disables the module’s output and turns off the output voltage. When the Inhibit (See Datasheet)"